# EAGLE library part *123 (library digital)
74xx123: Dual Monoflop Retriggerable, with clear
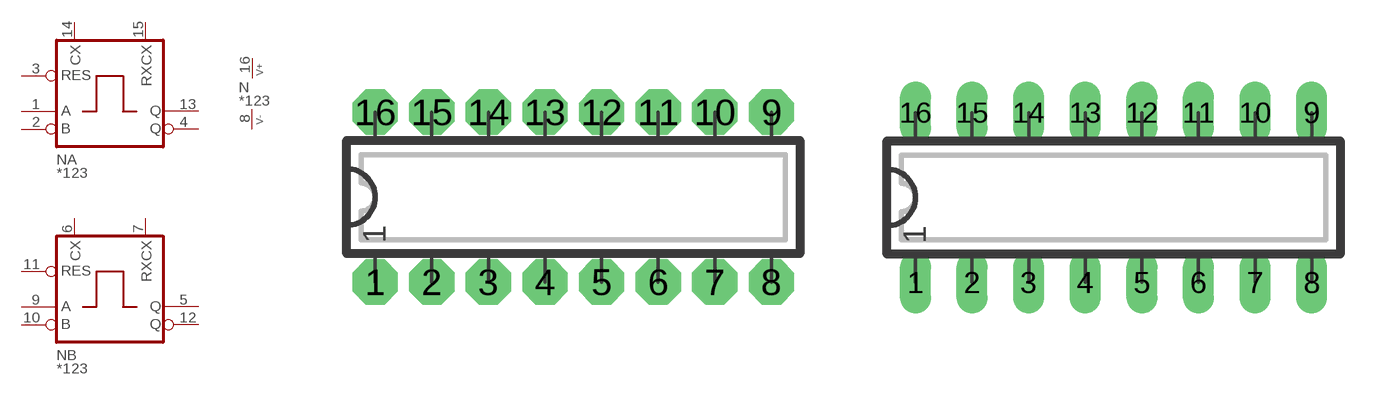
[diagram p26: symbol with the pads of DIP16N; footprints DIP16N, DIP16L]

Designator prefix N; gates P=V+- A=MONO B=MONO

## 74123N, 74C123N, 74HC123N, 74LS123N  [DIP16N]
1  A:A  in
2  A:/B  in
3  A:/RES  in
4  A:/Q  out
5  B:Q  out
6  B:CX  pas
7  B:RXCX  pas
8  P:V-  pwr
9  B:A  in
10  B:/B  in
11  B:/RES  in
12  B:/Q  out
13  A:Q  out
14  A:CX  pas
15  A:RXCX  pas
16  P:V+  pwr

## 74123, 74C123, 74HC123, 74LS123  [DIP16L]
Pads as for DIP16N

## 74123L, 74C123L, 74HC123L, 74LS123L  [DIP16L]
Pads as for DIP16N

## 74123R, 74C123R, 74HC123R, 74LS123R  [DIP16R]
Pads as for DIP16N

## 74HC123S, 74HCT123S  [SO16]
Pads as for DIP16N

## Footprint DIP16N (pad centres in mm)
DIP-16 Standard IC package, 16 pins
drill 0.813 pad 2.032 octagon: 1 0,0; 2 2.54,0; 3 5.08,0; 4 7.62,0; 5 10.16,0; 6 12.7,0; 7 15.24,0; 8 17.78,0; 9 17.78,7.62; 10 15.24,7.62; 11 12.7,7.62; 12 10.16,7.62; 13 7.62,7.62; 14 5.08,7.62; 15 2.54,7.62; 16 0,7.62

## Footprint DIP16L (pad centres in mm)
DIP-16, long pads Standard IC package, 16 pins
drill 0.813 pad 1.397 long: 1 0,0; 2 2.54,0; 3 5.08,0; 4 7.62,0; 5 10.16,0; 6 12.7,0; 7 15.24,0; 8 17.78,0; 9 17.78,7.62; 10 15.24,7.62; 11 12.7,7.62; 12 10.16,7.62; 13 7.62,7.62; 14 5.08,7.62; 15 2.54,7.62; 16 0,7.62

## Footprint DIP16R (pad centres in mm)
DIP-16, reduced pads Standard IC package, 16 pins
drill 0.813 pad 1.397 square: 1 0,0; 2 2.54,0; 3 5.08,0; 4 7.62,0; 5 10.16,0; 6 12.7,0; 7 15.24,0; 8 17.78,0; 9 17.78,7.62; 10 15.24,7.62; 11 12.7,7.62; 12 10.16,7.62; 13 7.62,7.62; 14 5.08,7.62; 15 2.54,7.62; 16 0,7.62

## Footprint SO16 (pad centres in mm)
SO-16, SMD SOIC IC package, 16 pins
smd 0.635 x 1.778: 1 -4.445,-2.857; 2 -3.175,-2.857; 3 -1.905,-2.857; 4 -0.635,-2.857; 5 0.635,-2.857; 6 1.905,-2.857; 7 3.175,-2.857; 8 4.445,-2.857; 9 4.445,2.857; 10 3.175,2.857; 11 1.905,2.857; 12 0.635,2.857; 13 -0.635,2.857; 14 -1.905,2.857; 15 -3.175,2.857; 16 -4.445,2.857